# EAGLE library part HDC100X (library TI_HDC100x)
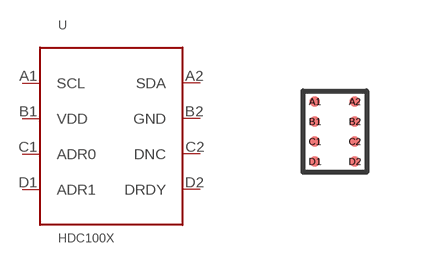
[diagram p0: symbol with the pads of HDC100X; footprint HDC100X]

Designator prefix -

## HDC100X  [HDC100X]
A1  SCL  in
A2  SDA
B1  VDD  pwr
B2  GND  pwr
C1  ADR0  in
C2  DNC  nc
D1  ADR1  in
D2  DRDY  in

## Footprint HDC100X (pad centres in mm)
smd 0.263 x 0.263: A1 -0.5,0.75; A2 0.5,0.75; B1 -0.5,0.25; B2 0.5,0.25; C1 -0.5,-0.25; C2 0.5,-0.25; D1 -0.5,-0.75; D2 0.5,-0.75